# EAGLE library part PCA9306DP (library KVB-ICs)
Voltage Level Translator Bidirectional 1 Circuit 2 Channel 8-TSSOP
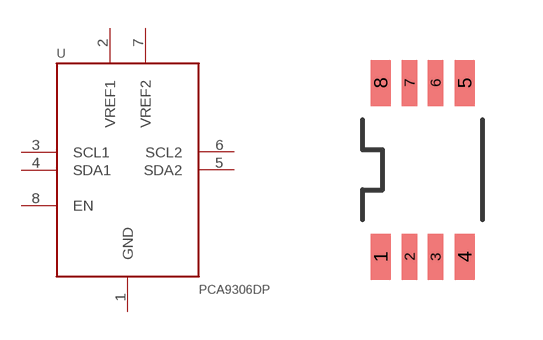
[diagram p3: symbol with the pads of PCA9306DP; footprint PCA9306DP]

Designator prefix U

## PCA9306DP (MAN-PART_NUM: PCA9306DP; MANUFACTURER: NXP Semiconductors)  [PCA9306DP]
1  GND
2  VREF1
3  SCL1
4  SDA1
5  SDA2
6  SCL2
7  VREF2
8  EN

## Footprint PCA9306DP (pad centres in mm)
smd 0.5 x 1.15: 1 -1.05,-2.175; 4 1.05,-2.175; 5 1.05,2.175; 8 -1.05,2.175
smd 0.38 x 1.15: 2 -0.325,-2.175; 3 0.325,-2.175; 6 0.325,2.175; 7 -0.325,2.175